# Altium footprint library Connector_Dsub.PcbLib: 120 footprints (part 2 of 8)
Each footprint in its own frame and in the unit in brackets; x right, y up, seen from the top. Pads: shape width x height; smd on the part's side, far side on the other; paste and mask are expansions set on the pad; w line width, h text height; cw(c..) or ccw(c..) is an arc to the next point about the centre after c.
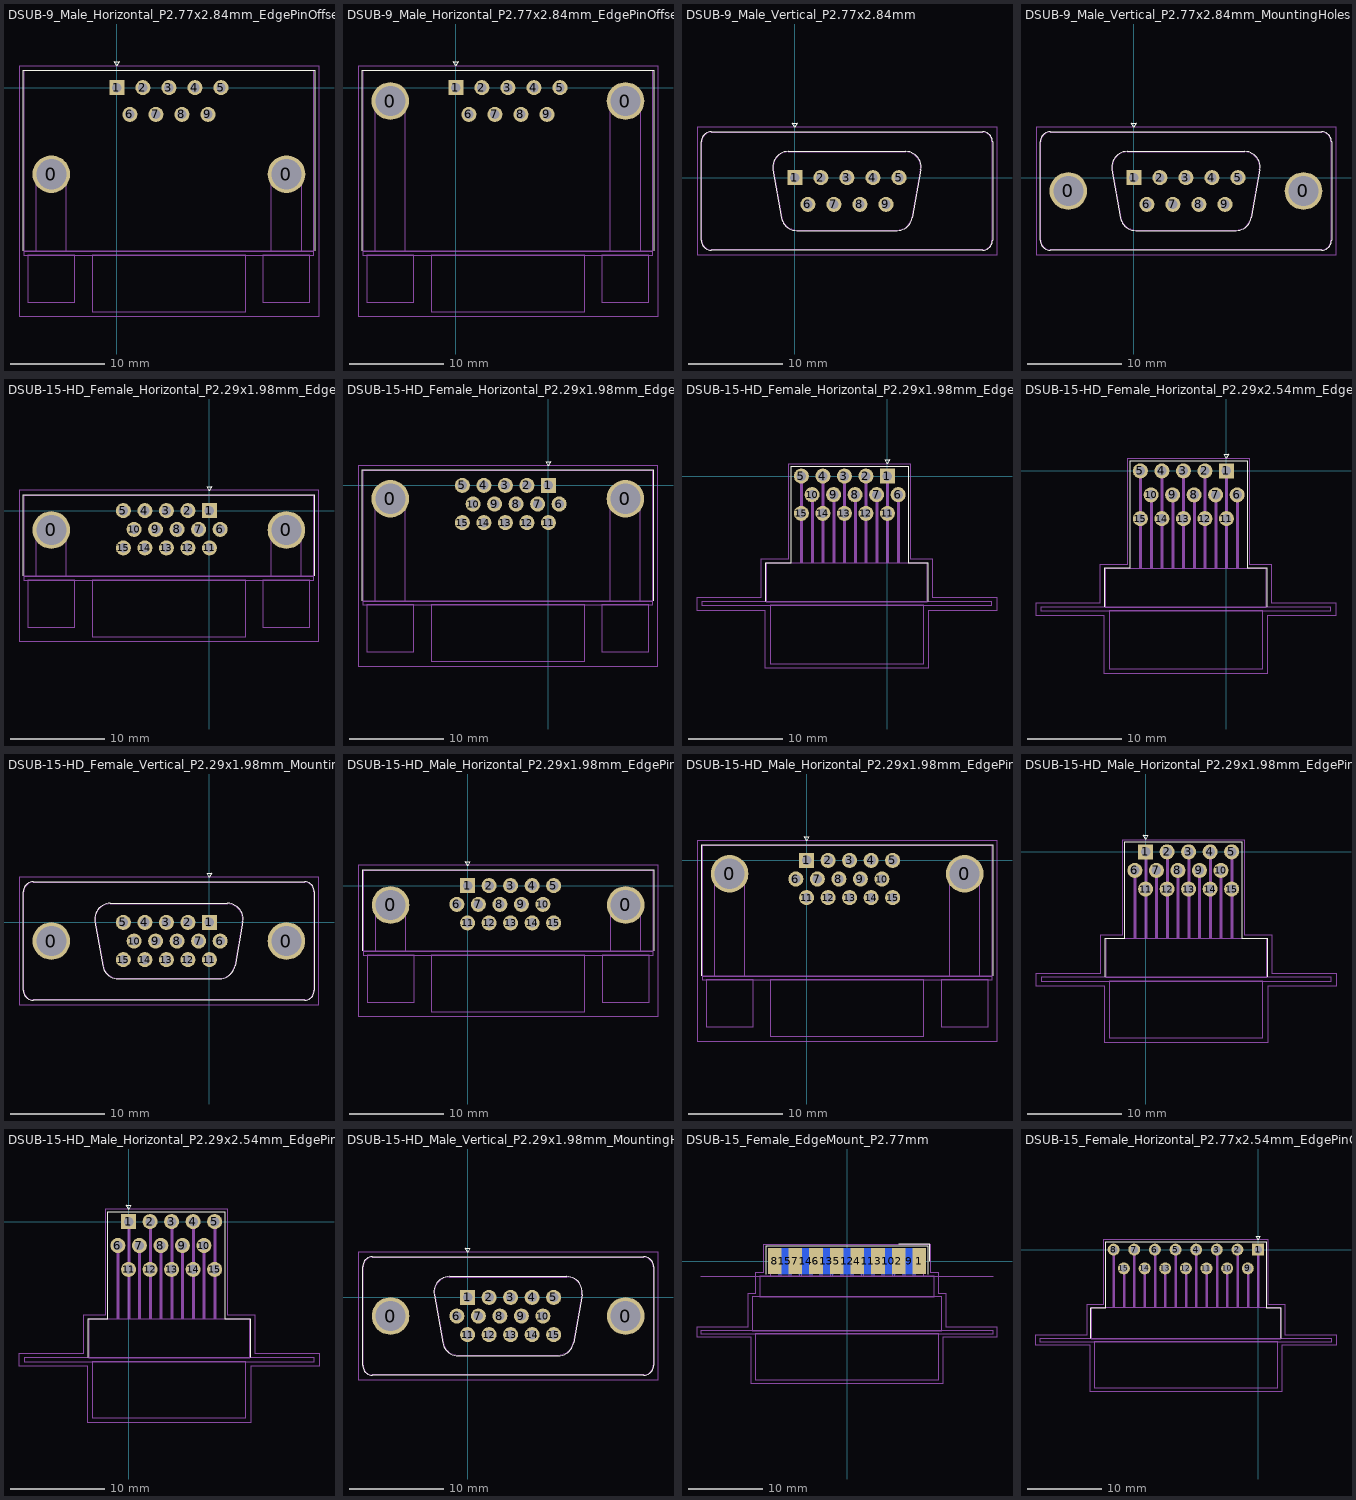
[diagram p1: the footprints below, top view; thin cyan lines are the x and y axes]

## DSUB-9_Male_Horizontal_P2.77x2.84mm_EdgePinOffset14.56mm_Housed_MountingHolesOffset8.20mm [mm]
pads (11):
  round 4 hole 3.2: 0(-6.96,-9.2) 0(18.04,-9.2)
  rect 1.6x1.6 hole 1: 1(0,0)
  round 1.6 hole 1: 2(2.77,0) 3(5.54,0) 4(8.31,0) 5(11.08,0) 6(1.385,-2.84) 7(4.155,-2.84) 8(6.925,-2.84) 9(9.695,-2.84)
F.SilkS:
  lines w0.12: -9.945,-17.34 -9.945,1.86 21.025,1.86 21.025,-17.34 ; -0.25,2.754 0.25,2.754 0,2.321 -0.25,2.754
F.CrtYd:
  lines w0.05: -10.4,-24.3 21.5,-24.3 21.5,2.3 -10.4,2.3 -10.4,-24.3
F.Fab:
  lines w0.1: -8.56,-17.4 -8.56,-9.2 cw(c-6.96,-9.2) -5.36,-9.2 -5.36,-17.4 ; 16.44,-17.4 16.44,-9.2 cw(c18.04,-9.2) 19.64,-9.2 19.64,-17.4 ; -9.885,-17.4 20.965,-17.4 ; -9.885,-17.4 -9.885,-17.8 20.965,-17.8 20.965,-17.4 ; -9.885,-17.4 -9.885,1.8 20.965,1.8 20.965,-17.4 ; -9.885,-17.4 20.965,-17.4 ; -9.46,-22.8 -4.46,-22.8 -4.46,-17.8 -9.46,-17.8 -9.46,-22.8 ; -2.61,-23.8 13.69,-23.8 13.69,-17.8 -2.61,-17.8 -2.61,-23.8 ; 15.54,-22.8 15.54,-17.8 20.54,-17.8 20.54,-22.8 15.54,-22.8
  text "'.Designator'" at 1.493,-21.64 h1

## DSUB-9_Male_Horizontal_P2.77x2.84mm_EdgePinOffset14.56mm_Housed_MountingHolesOffset15.98mm [mm]
pads (11):
  round 4 hole 3.2: 0(-6.96,-1.42) 0(18.04,-1.42)
  rect 1.6x1.6 hole 1: 1(0,0)
  round 1.6 hole 1: 2(2.77,0) 3(5.54,0) 4(8.31,0) 5(11.08,0) 6(1.385,-2.84) 7(4.155,-2.84) 8(6.925,-2.84) 9(9.695,-2.84)
F.SilkS:
  lines w0.12: -9.945,-17.34 -9.945,1.86 21.025,1.86 21.025,-17.34 ; -0.25,2.754 0,2.321 0.25,2.754 -0.25,2.754
F.CrtYd:
  lines w0.05: -10.4,-24.3 21.5,-24.3 21.5,2.3 -10.4,2.3 -10.4,-24.3
F.Fab:
  lines w0.1: -8.56,-17.4 -8.56,-1.42 cw(c-6.96,-1.42) -5.36,-1.42 -5.36,-17.4 ; 16.44,-17.4 16.44,-1.42 cw(c18.04,-1.42) 19.64,-1.42 19.64,-17.4 ; -9.885,-17.4 20.965,-17.4 ; -9.885,-17.4 -9.885,-17.8 20.965,-17.8 20.965,-17.4 ; -9.885,-17.4 20.965,-17.4 ; -9.885,-17.4 -9.885,1.8 20.965,1.8 20.965,-17.4 ; -9.46,-22.8 -4.46,-22.8 -4.46,-17.8 -9.46,-17.8 -9.46,-22.8 ; -2.61,-23.8 13.69,-23.8 13.69,-17.8 -2.61,-17.8 -2.61,-23.8 ; 15.54,-22.8 20.54,-22.8 20.54,-17.8 15.54,-17.8 15.54,-22.8
  text "'.Designator'" at 1.493,-21.64 h1

## DSUB-9_Male_Vertical_P2.77x2.84mm [mm]
pads (9):
  rect 1.6x1.6 hole 1: 1(0,0)
  round 1.6 hole 1: 2(2.77,0) 3(5.54,0) 4(8.31,0) 5(11.08,0) 6(1.385,-2.84) 7(4.155,-2.84) 8(6.925,-2.84) 9(9.695,-2.84)
F.SilkS:
  lines w0.12: -9.945,-6.67 -9.945,3.83 cw(c-8.885,3.83) -8.885,4.89 19.965,4.89 cw(c19.965,3.83) 21.025,3.83 21.025,-6.67 cw(c19.965,-6.67) 19.965,-7.73 -8.885,-7.73 cw(c-8.885,-6.67) -9.945,-6.67 ; -2.326,0.842 -1.427,-4.258 ccw(c0.208,-3.97) 0.208,-5.63 10.872,-5.63 ccw(c10.872,-3.97) 12.507,-4.258 13.406,0.842 ccw(c11.772,1.13) 11.772,2.79 -0.692,2.79 ccw(c-0.692,1.13) -2.326,0.842 ; -0.25,5.784 0.25,5.784 0,5.351 -0.25,5.784
F.CrtYd:
  lines w0.05: -10.4,-8.2 -10.4,5.35 21.5,5.35 21.5,-8.2 -10.4,-8.2
F.Fab:
  lines w0.1: -9.885,-6.67 -9.885,3.83 cw(c-8.885,3.83) -8.885,4.83 19.965,4.83 cw(c19.965,3.83) 20.965,3.83 20.965,-6.67 cw(c19.965,-6.67) 19.965,-7.67 -8.885,-7.67 cw(c-8.885,-6.67) -9.885,-6.67 ; -2.279,0.852 -1.38,-4.248 ccw(c0.196,-3.97) 0.196,-5.57 10.884,-5.57 ccw(c10.884,-3.97) 12.46,-4.248 13.359,0.852 ccw(c11.783,1.13) 11.783,2.73 -0.703,2.73 ccw(c-0.703,1.13) -2.279,0.852
  text "'.Designator'" at 1.493,-2.26 h1

## DSUB-9_Male_Vertical_P2.77x2.84mm_MountingHoles [mm]
pads (11):
  round 4 hole 3.2: 0(-6.96,-1.42) 0(18.04,-1.42)
  rect 1.6x1.6 hole 1: 1(0,0)
  round 1.6 hole 1: 2(2.77,0) 3(5.54,0) 4(8.31,0) 5(11.08,0) 6(1.385,-2.84) 7(4.155,-2.84) 8(6.925,-2.84) 9(9.695,-2.84)
F.SilkS:
  lines w0.12: -9.945,-6.67 -9.945,3.83 cw(c-8.885,3.83) -8.885,4.89 19.965,4.89 cw(c19.965,3.83) 21.025,3.83 21.025,-6.67 cw(c19.965,-6.67) 19.965,-7.73 -8.885,-7.73 cw(c-8.885,-6.67) -9.945,-6.67 ; -2.326,0.842 -1.427,-4.258 ccw(c0.208,-3.97) 0.208,-5.63 10.872,-5.63 ccw(c10.872,-3.97) 12.507,-4.258 13.406,0.842 ccw(c11.772,1.13) 11.772,2.79 -0.692,2.79 ccw(c-0.692,1.13) -2.326,0.842 ; -0.25,5.784 0.25,5.784 0,5.351 -0.25,5.784
F.CrtYd:
  lines w0.05: -10.4,-8.2 21.5,-8.2 21.5,5.35 -10.4,5.35 -10.4,-8.2
F.Fab:
  lines w0.1: -9.885,-6.67 -9.885,3.83 cw(c-8.885,3.83) -8.885,4.83 19.965,4.83 cw(c19.965,3.83) 20.965,3.83 20.965,-6.67 cw(c19.965,-6.67) 19.965,-7.67 -8.885,-7.67 cw(c-8.885,-6.67) -9.885,-6.67 ; -2.279,0.852 -1.38,-4.248 ccw(c0.196,-3.97) 0.196,-5.57 10.884,-5.57 ccw(c10.884,-3.97) 12.46,-4.248 13.359,0.852 ccw(c11.783,1.13) 11.783,2.73 -0.703,2.73 ccw(c-0.703,1.13) -2.279,0.852
  text "'.Designator'" at 1.493,-2.26 h1

## DSUB-15-HD_Female_Horizontal_P2.29x1.98mm_EdgePinOffset3.03mm_Housed_MountingHolesOffset4.94mm [mm]
pads (17):
  round 4 hole 3.2: 0(-16.815,-2.05) 0(8.185,-2.05)
  rect 1.6x1.6 hole 1: 1(0,0)
  round 1.6 hole 1: 2(-2.29,0) 3(-4.58,0) 4(-6.87,0) 5(-9.16,0) 6(1.145,-1.98) 7(-1.145,-1.98) 8(-3.435,-1.98) 9(-5.725,-1.98) 10(-8.015,-1.98) 11(0,-3.96) 12(-2.29,-3.96) 13(-4.58,-3.96) 14(-6.87,-3.96) 15(-9.16,-3.96)
F.SilkS:
  lines w0.12: -19.8,-6.93 -19.8,1.67 11.17,1.67 11.17,-6.93 ; -0.25,2.564 0.25,2.564 0,2.131 -0.25,2.564
F.CrtYd:
  lines w0.05: -20.25,-13.9 -20.25,2.15 11.65,2.15 11.65,-13.9 -20.25,-13.9
F.Fab:
  lines w0.1: -18.415,-6.99 -18.415,-2.05 cw(c-16.815,-2.05) -15.215,-2.05 -15.215,-6.99 ; 6.585,-6.99 6.585,-2.05 cw(c8.185,-2.05) 9.785,-2.05 9.785,-6.99 ; -19.74,-6.99 -19.74,1.61 11.11,1.61 11.11,-6.99 ; -19.74,-6.99 11.11,-6.99 ; -19.74,-6.99 11.11,-6.99 ; -19.74,-6.99 -19.74,-7.39 11.11,-7.39 11.11,-6.99 ; -19.315,-12.39 -14.315,-12.39 -14.315,-7.39 -19.315,-7.39 -19.315,-12.39 ; -12.465,-13.39 -12.465,-7.39 3.835,-7.39 3.835,-13.39 -12.465,-13.39 ; 5.685,-12.39 10.685,-12.39 10.685,-7.39 5.685,-7.39 5.685,-12.39
  text "'.Designator'" at -8.362,-11.23 h1

## DSUB-15-HD_Female_Horizontal_P2.29x1.98mm_EdgePinOffset8.35mm_Housed_MountingHolesOffset10.89mm [mm]
pads (17):
  round 4 hole 3.2: 0(-16.815,-1.42) 0(8.185,-1.42)
  rect 1.6x1.6 hole 1: 1(0,0)
  round 1.6 hole 1: 2(-2.29,0) 3(-4.58,0) 4(-6.87,0) 5(-9.16,0) 6(1.145,-1.98) 7(-1.145,-1.98) 8(-3.435,-1.98) 9(-5.725,-1.98) 10(-8.015,-1.98) 11(0,-3.96) 12(-2.29,-3.96) 13(-4.58,-3.96) 14(-6.87,-3.96) 15(-9.16,-3.96)
F.SilkS:
  lines w0.12: -19.8,-12.25 -19.8,1.64 11.17,1.64 11.17,-12.25 ; -0.25,2.534 0,2.101 0.25,2.534 -0.25,2.534
F.CrtYd:
  lines w0.05: -20.25,-19.25 -20.25,2.1 11.65,2.1 11.65,-19.25 -20.25,-19.25
F.Fab:
  lines w0.1: -18.415,-12.31 -18.415,-1.42 cw(c-16.815,-1.42) -15.215,-1.42 -15.215,-12.31 ; 6.585,-12.31 6.585,-1.42 cw(c8.185,-1.42) 9.785,-1.42 9.785,-12.31 ; -19.74,-12.31 -19.74,-12.71 11.11,-12.71 11.11,-12.31 ; -19.74,-12.31 -19.74,1.58 11.11,1.58 11.11,-12.31 ; -19.74,-12.31 11.11,-12.31 ; -19.74,-12.31 11.11,-12.31 ; -19.315,-17.71 -14.315,-17.71 -14.315,-12.71 -19.315,-12.71 -19.315,-17.71 ; -12.465,-18.71 -12.465,-12.71 3.835,-12.71 3.835,-18.71 -12.465,-18.71 ; 5.685,-17.71 10.685,-17.71 10.685,-12.71 5.685,-12.71 5.685,-17.71
  text "'.Designator'" at -8.362,-16.55 h1

## DSUB-15-HD_Female_Horizontal_P2.29x1.98mm_EdgePinOffset9.40mm [mm]
pads (15):
  rect 1.6x1.6 hole 1: 1(0,0)
  round 1.6 hole 1: 2(-2.29,0) 3(-4.58,0) 4(-6.87,0) 5(-9.16,0) 6(1.145,-1.98) 7(-1.145,-1.98) 8(-3.435,-1.98) 9(-5.725,-1.98) 10(-8.015,-1.98) 11(0,-3.96) 12(-2.29,-3.96) 13(-4.58,-3.96) 14(-6.87,-3.96) 15(-9.16,-3.96)
F.SilkS:
  lines w0.12: -12.925,-13.3 -12.925,-9.2 -10.22,-9.2 -10.22,1.06 2.205,1.06 2.205,-9.2 4.295,-9.2 4.295,-13.3 ; -0.25,1.754 0.25,1.754 0,1.321 -0.25,1.754
F.CrtYd:
  lines w0.05: -20.25,-14.3 -20.25,-12.9 -13.4,-12.9 -13.4,-8.8 -10.5,-8.8 -10.5,1.3 2.45,1.3 2.45,-8.8 4.75,-8.8 4.75,-12.9 11.65,-12.9 11.65,-14.3 4.35,-14.3 4.35,-20.45 -13,-20.45 -13,-14.3 -20.25,-14.3
F.Fab:
  lines w0.1: -9.26,-3.96 -9.26,-9.26 -9.26,0 ; -9.16,-3.96 -9.16,-9.26 -9.16,0 ; -9.06,-3.96 -9.06,-9.26 -9.06,0 ; -8.115,-9.26 -8.115,-1.98 ; -8.015,-9.26 -8.015,-1.98 ; -7.915,-9.26 -7.915,-1.98 ; -6.97,-3.96 -6.97,-9.26 -6.97,0 ; -6.87,-3.96 -6.87,-9.26 -6.87,0 ; -6.77,-3.96 -6.77,-9.26 -6.77,0 ; -5.825,-9.26 -5.825,-1.98 ; -5.725,-9.26 -5.725,-1.98 ; -5.625,-9.26 -5.625,-1.98 ; -4.68,-3.96 -4.68,-9.26 -4.68,0 ; -4.58,-3.96 -4.58,-9.26 -4.58,0 ; -4.48,-3.96 -4.48,-9.26 -4.48,0 ; -3.535,-9.26 -3.535,-1.98 ; -3.435,-9.26 -3.435,-1.98 ; -3.335,-9.26 -3.335,-1.98 ; -2.39,-3.96 -2.39,-9.26 -2.39,0 ; -2.29,-3.96 -2.29,-9.26 -2.29,0 ; -2.19,-3.96 -2.19,-9.26 -2.19,0 ; -1.245,-9.26 -1.245,-1.98 ; -1.145,-9.26 -1.145,-1.98 ; -1.045,-9.26 -1.045,-1.98 ; -0.1,-3.96 -0.1,-9.26 -0.1,0 ; 0,-3.96 0,-9.26 0,0 ; 0.1,-3.96 0.1,-9.26 0.1,0 ; 1.045,-9.26 1.045,-1.98 ; 1.145,-9.26 1.145,-1.98 ; 1.245,-9.26 1.245,-1.98 ; -19.74,-13.76 -19.74,-13.36 11.11,-13.36 11.11,-13.76 -19.74,-13.76 ; -12.865,-13.36 4.235,-13.36 4.235,-9.26 -12.865,-9.26 -12.865,-13.36 ; -12.465,-19.93 -12.465,-13.76 3.835,-13.76 3.835,-19.93 -12.465,-19.93
  text "'.Designator'" at -8.362,-17.685 h1

## DSUB-15-HD_Female_Horizontal_P2.29x2.54mm_EdgePinOffset9.40mm [mm]
pads (15):
  rect 1.6x1.6 hole 1: 1(0,0)
  round 1.6 hole 1: 2(-2.29,0) 3(-4.58,0) 4(-6.87,0) 5(-9.16,0) 6(1.145,-2.54) 7(-1.145,-2.54) 8(-3.435,-2.54) 9(-5.725,-2.54) 10(-8.015,-2.54) 11(0,-5.08) 12(-2.29,-5.08) 13(-4.58,-5.08) 14(-6.87,-5.08) 15(-9.16,-5.08)
F.SilkS:
  lines w0.12: -12.925,-14.42 -12.925,-10.32 -10.22,-10.32 -10.22,1.06 2.205,1.06 2.205,-10.32 4.295,-10.32 4.295,-14.42 ; -0.25,1.754 0.25,1.754 0,1.321 -0.25,1.754
F.CrtYd:
  lines w0.05: -20.25,-15.4 -13,-15.4 -13,-21.55 4.35,-21.55 4.35,-15.4 11.65,-15.4 11.65,-14 4.75,-14 4.75,-9.9 2.45,-9.9 2.45,1.35 -10.5,1.35 -10.5,-9.9 -13.4,-9.9 -13.4,-14 -20.25,-14 -20.25,-15.4
F.Fab:
  lines w0.1: -9.26,-5.08 -9.26,-10.38 -9.26,0 ; -9.16,-5.08 -9.16,-10.38 -9.16,0 ; -9.06,-5.08 -9.06,-10.38 -9.06,0 ; -8.115,-10.38 -8.115,-2.54 ; -8.015,-10.38 -8.015,-2.54 ; -7.915,-10.38 -7.915,-2.54 ; -6.97,-5.08 -6.97,-10.38 -6.97,0 ; -6.87,-5.08 -6.87,-10.38 -6.87,0 ; -6.77,-5.08 -6.77,-10.38 -6.77,0 ; -5.825,-10.38 -5.825,-2.54 ; -5.725,-10.38 -5.725,-2.54 ; -5.625,-10.38 -5.625,-2.54 ; -4.68,-5.08 -4.68,-10.38 -4.68,0 ; -4.58,-5.08 -4.58,-10.38 -4.58,0 ; -4.48,-5.08 -4.48,-10.38 -4.48,0 ; -3.535,-10.38 -3.535,-2.54 ; -3.435,-10.38 -3.435,-2.54 ; -3.335,-10.38 -3.335,-2.54 ; -2.39,-5.08 -2.39,-10.38 -2.39,0 ; -2.29,-5.08 -2.29,-10.38 -2.29,0 ; -2.19,-5.08 -2.19,-10.38 -2.19,0 ; -1.245,-10.38 -1.245,-2.54 ; -1.145,-10.38 -1.145,-2.54 ; -1.045,-10.38 -1.045,-2.54 ; -0.1,-5.08 -0.1,-10.38 -0.1,0 ; 0,-5.08 0,-10.38 0,0 ; 0.1,-5.08 0.1,-10.38 0.1,0 ; 1.045,-10.38 1.045,-2.54 ; 1.145,-10.38 1.145,-2.54 ; 1.245,-10.38 1.245,-2.54 ; -19.74,-14.88 -19.74,-14.48 11.11,-14.48 11.11,-14.88 -19.74,-14.88 ; -12.865,-14.48 -12.865,-10.38 4.235,-10.38 4.235,-14.48 -12.865,-14.48 ; -12.465,-21.05 -12.465,-14.88 3.835,-14.88 3.835,-21.05 -12.465,-21.05
  text "'.Designator'" at -8.362,-18.805 h1

## DSUB-15-HD_Female_Vertical_P2.29x1.98mm_MountingHoles [mm]
pads (17):
  round 4 hole 3.2: 0(-16.815,-1.98) 0(8.185,-1.98)
  rect 1.6x1.6 hole 1: 1(0,0)
  round 1.6 hole 1: 2(-2.29,0) 3(-4.58,0) 4(-6.87,0) 5(-9.16,0) 6(1.145,-1.98) 7(-1.145,-1.98) 8(-3.435,-1.98) 9(-5.725,-1.98) 10(-8.015,-1.98) 11(0,-3.96) 12(-2.29,-3.96) 13(-4.58,-3.96) 14(-6.87,-3.96) 15(-9.16,-3.96)
F.SilkS:
  lines w0.12: -19.8,-7.23 -19.8,3.27 cw(c-18.74,3.27) -18.74,4.33 10.11,4.33 cw(c10.11,3.27) 11.17,3.27 11.17,-7.23 cw(c10.11,-7.23) 10.11,-8.29 -18.74,-8.29 cw(c-18.74,-7.23) -19.8,-7.23 ; -12.181,0.082 -11.353,-4.618 ccw(c-9.718,-4.33) -9.718,-5.99 1.088,-5.99 ccw(c1.088,-4.33) 2.723,-4.618 3.551,0.082 ccw(c1.917,0.37) 1.917,2.03 -10.547,2.03 ccw(c-10.547,0.37) -12.181,0.082 ; -0.25,5.224 0.25,5.224 0,4.791 -0.25,5.224
F.CrtYd:
  lines w0.05: -20.25,-8.75 11.65,-8.75 11.65,4.8 -20.25,4.8 -20.25,-8.75
F.Fab:
  lines w0.1: -19.74,-7.23 -19.74,3.27 cw(c-18.74,3.27) -18.74,4.27 10.11,4.27 cw(c10.11,3.27) 11.11,3.27 11.11,-7.23 cw(c10.11,-7.23) 10.11,-8.23 -18.74,-8.23 cw(c-18.74,-7.23) -19.74,-7.23 ; -12.134,0.092 -11.305,-4.608 ccw(c-9.729,-4.33) -9.729,-5.93 1.099,-5.93 ccw(c1.099,-4.33) 2.675,-4.608 3.504,0.092 ccw(c1.928,0.37) 1.928,1.97 -10.558,1.97 ccw(c-10.558,0.37) -12.134,0.092
  text "'.Designator'" at -8.362,-2.82 h1

## DSUB-15-HD_Male_Horizontal_P2.29x1.98mm_EdgePinOffset3.03mm_Housed_MountingHolesOffset4.94mm [mm]
pads (17):
  round 4 hole 3.2: 0(-8.185,-2.05) 0(16.815,-2.05)
  rect 1.6x1.6 hole 1: 1(0,0)
  round 1.6 hole 1: 2(2.29,0) 3(4.58,0) 4(6.87,0) 5(9.16,0) 6(-1.145,-1.98) 7(1.145,-1.98) 8(3.435,-1.98) 9(5.725,-1.98) 10(8.015,-1.98) 11(0,-3.96) 12(2.29,-3.96) 13(4.58,-3.96) 14(6.87,-3.96) 15(9.16,-3.96)
F.SilkS:
  lines w0.12: -11.17,-6.93 -11.17,1.67 19.8,1.67 19.8,-6.93 ; -0.25,2.564 0,2.131 0.25,2.564 -0.25,2.564
F.CrtYd:
  lines w0.05: -11.65,-13.9 -11.65,2.15 20.25,2.15 20.25,-13.9 -11.65,-13.9
F.Fab:
  lines w0.1: -9.785,-6.99 -9.785,-2.05 cw(c-8.185,-2.05) -6.585,-2.05 -6.585,-6.99 ; 15.215,-6.99 15.215,-2.05 cw(c16.815,-2.05) 18.415,-2.05 18.415,-6.99 ; -11.11,-6.99 -11.11,-7.39 19.74,-7.39 19.74,-6.99 ; -11.11,-6.99 19.74,-6.99 ; -11.11,-6.99 -11.11,1.61 19.74,1.61 19.74,-6.99 ; -11.11,-6.99 19.74,-6.99 ; -10.685,-12.39 -5.685,-12.39 -5.685,-7.39 -10.685,-7.39 -10.685,-12.39 ; -3.835,-13.39 12.465,-13.39 12.465,-7.39 -3.835,-7.39 -3.835,-13.39 ; 14.315,-12.39 19.315,-12.39 19.315,-7.39 14.315,-7.39 14.315,-12.39
  text "'.Designator'" at 0.268,-11.23 h1

## DSUB-15-HD_Male_Horizontal_P2.29x1.98mm_EdgePinOffset8.35mm_Housed_MountingHolesOffset10.89mm [mm]
pads (17):
  round 4 hole 3.2: 0(-8.185,-1.42) 0(16.815,-1.42)
  rect 1.6x1.6 hole 1: 1(0,0)
  round 1.6 hole 1: 2(2.29,0) 3(4.58,0) 4(6.87,0) 5(9.16,0) 6(-1.145,-1.98) 7(1.145,-1.98) 8(3.435,-1.98) 9(5.725,-1.98) 10(8.015,-1.98) 11(0,-3.96) 12(2.29,-3.96) 13(4.58,-3.96) 14(6.87,-3.96) 15(9.16,-3.96)
F.SilkS:
  lines w0.12: -11.17,-12.25 -11.17,1.64 19.8,1.64 19.8,-12.25 ; -0.25,2.534 0,2.101 0.25,2.534 -0.25,2.534
F.CrtYd:
  lines w0.05: -11.65,-19.25 -11.65,2.1 20.25,2.1 20.25,-19.25 -11.65,-19.25
F.Fab:
  lines w0.1: -9.785,-12.31 -9.785,-1.42 cw(c-8.185,-1.42) -6.585,-1.42 -6.585,-12.31 ; 15.215,-12.31 15.215,-1.42 cw(c16.815,-1.42) 18.415,-1.42 18.415,-12.31 ; -11.11,-12.31 -11.11,1.58 19.74,1.58 19.74,-12.31 ; -11.11,-12.31 19.74,-12.31 ; -11.11,-12.31 -11.11,-12.71 19.74,-12.71 19.74,-12.31 ; -11.11,-12.31 19.74,-12.31 ; -10.685,-17.71 -10.685,-12.71 -5.685,-12.71 -5.685,-17.71 -10.685,-17.71 ; -3.835,-18.71 -3.835,-12.71 12.465,-12.71 12.465,-18.71 -3.835,-18.71 ; 14.315,-17.71 14.315,-12.71 19.315,-12.71 19.315,-17.71 14.315,-17.71
  text "'.Designator'" at 0.268,-16.55 h1

## DSUB-15-HD_Male_Horizontal_P2.29x1.98mm_EdgePinOffset9.40mm [mm]
pads (15):
  rect 1.6x1.6 hole 1: 1(0,0)
  round 1.6 hole 1: 2(2.29,0) 3(4.58,0) 4(6.87,0) 5(9.16,0) 6(-1.145,-1.98) 7(1.145,-1.98) 8(3.435,-1.98) 9(5.725,-1.98) 10(8.015,-1.98) 11(0,-3.96) 12(2.29,-3.96) 13(4.58,-3.96) 14(6.87,-3.96) 15(9.16,-3.96)
F.SilkS:
  lines w0.12: -4.295,-13.3 -4.295,-9.2 -2.205,-9.2 -2.205,1.06 10.22,1.06 10.22,-9.2 12.925,-9.2 12.925,-13.3 ; -0.25,1.754 0,1.321 0.25,1.754 -0.25,1.754
F.CrtYd:
  lines w0.05: -11.65,-14.3 -4.35,-14.3 -4.35,-20.3 13,-20.3 13,-14.3 20.25,-14.3 20.25,-12.9 13.4,-12.9 13.4,-8.8 10.5,-8.8 10.5,1.3 -2.45,1.3 -2.45,-8.8 -4.75,-8.8 -4.75,-12.9 -11.65,-12.9 -11.65,-14.3
F.Fab:
  lines w0.1: -1.245,-9.26 -1.245,-1.98 ; -1.145,-9.26 -1.145,-1.98 ; -1.045,-9.26 -1.045,-1.98 ; -0.1,-3.96 -0.1,-9.26 -0.1,0 ; 0,-3.96 0,-9.26 0,0 ; 0.1,-3.96 0.1,-9.26 0.1,0 ; 1.045,-9.26 1.045,-1.98 ; 1.145,-9.26 1.145,-1.98 ; 1.245,-9.26 1.245,-1.98 ; 2.19,-3.96 2.19,-9.26 2.19,0 ; 2.29,-3.96 2.29,-9.26 2.29,0 ; 2.39,-3.96 2.39,-9.26 2.39,0 ; 3.335,-9.26 3.335,-1.98 ; 3.435,-9.26 3.435,-1.98 ; 3.535,-9.26 3.535,-1.98 ; 4.48,-3.96 4.48,-9.26 4.48,0 ; 4.58,-3.96 4.58,-9.26 4.58,0 ; 4.68,-3.96 4.68,-9.26 4.68,0 ; 5.625,-9.26 5.625,-1.98 ; 5.725,-9.26 5.725,-1.98 ; 5.825,-9.26 5.825,-1.98 ; 6.77,-3.96 6.77,-9.26 6.77,0 ; 6.87,-3.96 6.87,-9.26 6.87,0 ; 6.97,-3.96 6.97,-9.26 6.97,0 ; 7.915,-9.26 7.915,-1.98 ; 8.015,-9.26 8.015,-1.98 ; 8.115,-9.26 8.115,-1.98 ; 9.06,-3.96 9.06,-9.26 9.06,0 ; 9.16,-3.96 9.16,-9.26 9.16,0 ; 9.26,-3.96 9.26,-9.26 9.26,0 ; -11.11,-13.76 -11.11,-13.36 19.74,-13.36 19.74,-13.76 -11.11,-13.76 ; -4.235,-13.36 -4.235,-9.26 12.865,-9.26 12.865,-13.36 -4.235,-13.36 ; -3.835,-19.76 12.465,-19.76 12.465,-13.76 -3.835,-13.76 -3.835,-19.76
  text "'.Designator'" at 0.268,-17.6 h1

## DSUB-15-HD_Male_Horizontal_P2.29x2.54mm_EdgePinOffset9.40mm [mm]
pads (15):
  rect 1.6x1.6 hole 1: 1(0,0)
  round 1.6 hole 1: 2(2.29,0) 3(4.58,0) 4(6.87,0) 5(9.16,0) 6(-1.145,-2.54) 7(1.145,-2.54) 8(3.435,-2.54) 9(5.725,-2.54) 10(8.015,-2.54) 11(0,-5.08) 12(2.29,-5.08) 13(4.58,-5.08) 14(6.87,-5.08) 15(9.16,-5.08)
F.SilkS:
  lines w0.12: -4.295,-14.42 -4.295,-10.32 -2.205,-10.32 -2.205,1.06 10.22,1.06 10.22,-10.32 12.925,-10.32 12.925,-14.42 ; -0.25,1.754 0.25,1.754 0,1.321 -0.25,1.754
F.CrtYd:
  lines w0.05: -11.65,-15.4 -4.35,-15.4 -4.35,-21.4 13,-21.4 13,-15.4 20.25,-15.4 20.25,-14 13.4,-14 13.4,-9.9 10.5,-9.9 10.5,1.35 -2.45,1.35 -2.45,-9.9 -4.75,-9.9 -4.75,-14 -11.65,-14 -11.65,-15.4
F.Fab:
  lines w0.1: -1.245,-10.38 -1.245,-2.54 ; -1.145,-10.38 -1.145,-2.54 ; -1.045,-10.38 -1.045,-2.54 ; -0.1,-5.08 -0.1,-10.38 -0.1,0 ; 0,-5.08 0,-10.38 0,0 ; 0.1,-5.08 0.1,-10.38 0.1,0 ; 1.045,-10.38 1.045,-2.54 ; 1.145,-10.38 1.145,-2.54 ; 1.245,-10.38 1.245,-2.54 ; 2.19,-5.08 2.19,-10.38 2.19,0 ; 2.29,-5.08 2.29,-10.38 2.29,0 ; 2.39,-5.08 2.39,-10.38 2.39,0 ; 3.335,-10.38 3.335,-2.54 ; 3.435,-10.38 3.435,-2.54 ; 3.535,-10.38 3.535,-2.54 ; 4.48,-5.08 4.48,-10.38 4.48,0 ; 4.58,-5.08 4.58,-10.38 4.58,0 ; 4.68,-5.08 4.68,-10.38 4.68,0 ; 5.625,-10.38 5.625,-2.54 ; 5.725,-10.38 5.725,-2.54 ; 5.825,-10.38 5.825,-2.54 ; 6.77,-5.08 6.77,-10.38 6.77,0 ; 6.87,-5.08 6.87,-10.38 6.87,0 ; 6.97,-5.08 6.97,-10.38 6.97,0 ; 7.915,-10.38 7.915,-2.54 ; 8.015,-10.38 8.015,-2.54 ; 8.115,-10.38 8.115,-2.54 ; 9.06,-5.08 9.06,-10.38 9.06,0 ; 9.16,-5.08 9.16,-10.38 9.16,0 ; 9.26,-5.08 9.26,-10.38 9.26,0 ; -11.11,-14.88 19.74,-14.88 19.74,-14.48 -11.11,-14.48 -11.11,-14.88 ; -4.235,-14.48 12.865,-14.48 12.865,-10.38 -4.235,-10.38 -4.235,-14.48 ; -3.835,-20.88 -3.835,-14.88 12.465,-14.88 12.465,-20.88 -3.835,-20.88
  text "'.Designator'" at 0.268,-18.72 h1

## DSUB-15-HD_Male_Vertical_P2.29x1.98mm_MountingHoles [mm]
pads (17):
  round 4 hole 3.2: 0(-8.185,-1.98) 0(16.815,-1.98)
  rect 1.6x1.6 hole 1: 1(0,0)
  round 1.6 hole 1: 2(2.29,0) 3(4.58,0) 4(6.87,0) 5(9.16,0) 6(-1.145,-1.98) 7(1.145,-1.98) 8(3.435,-1.98) 9(5.725,-1.98) 10(8.015,-1.98) 11(0,-3.96) 12(2.29,-3.96) 13(4.58,-3.96) 14(6.87,-3.96) 15(9.16,-3.96)
F.SilkS:
  lines w0.12: -11.17,-7.23 -11.17,3.27 cw(c-10.11,3.27) -10.11,4.33 18.74,4.33 cw(c18.74,3.27) 19.8,3.27 19.8,-7.23 cw(c18.74,-7.23) 18.74,-8.29 -10.11,-8.29 cw(c-10.11,-7.23) -11.17,-7.23 ; -3.551,0.282 -2.652,-4.818 ccw(c-1.017,-4.53) -1.017,-6.19 9.647,-6.19 ccw(c9.647,-4.53) 11.282,-4.818 12.181,0.282 ccw(c10.547,0.57) 10.547,2.23 -1.917,2.23 ccw(c-1.917,0.57) -3.551,0.282 ; -0.25,5.224 0,4.791 0.25,5.224 -0.25,5.224
F.CrtYd:
  lines w0.05: -11.65,-8.75 -11.65,4.8 20.25,4.8 20.25,-8.75 -11.65,-8.75
F.Fab:
  lines w0.1: -11.11,-7.23 -11.11,3.27 cw(c-10.11,3.27) -10.11,4.27 18.74,4.27 cw(c18.74,3.27) 19.74,3.27 19.74,-7.23 cw(c18.74,-7.23) 18.74,-8.23 -10.11,-8.23 cw(c-10.11,-7.23) -11.11,-7.23 ; -3.504,0.292 -2.605,-4.808 ccw(c-1.029,-4.53) -1.029,-6.13 9.659,-6.13 ccw(c9.659,-4.53) 11.235,-4.808 12.134,0.292 ccw(c10.558,0.57) 10.558,2.17 -1.928,2.17 ccw(c-1.928,0.57) -3.504,0.292
  text "'.Designator'" at 0.268,-2.82 h1

## DSUB-15_Female_EdgeMount_P2.77mm [mm]
pads (15):
  rect 1.847x3.48 smd: 1(9.695,0) 2(6.925,0) 3(4.155,0) 4(1.385,0) 5(-1.385,0) 6(-4.155,0) 7(-6.925,0) 8(-9.695,0)
  rect 1.847x3.48 smd far side: 9(8.31,0) 10(5.54,0) 11(2.77,0) 12(0,0) 13(-2.77,0) 14(-5.54,0) 15(-8.31,0)
F.SilkS:
  lines w0.12: -10.878,-1.74 -10.878,2 10.878,2 10.878,-1.74 ; 6.925,2.24 11.118,2.24 11.118,0
Dwgs.User:
  lines w0.05: -19.6,-1.99 19.6,-1.99
  text "PCB edge" at -16.323,-1.732 h0.5
F.CrtYd:
  lines w0.05: -20.1,-10.2 -12.8,-10.2 -12.8,-16.4 12.8,-16.4 12.8,-10.2 20.1,-10.2 20.1,-8.8 13.2,-8.8 13.2,-4.3 12.2,-4.3 12.2,-1.5 11.15,-1.5 11.15,2.25 -11.15,2.25 -11.15,-1.5 -12.2,-1.5 -12.2,-4.3 -13.2,-4.3 -13.2,-8.8 -20.1,-8.8 -20.1,-10.2
B.Fab:
  lines w0.1: -8.91,-1.99 -7.71,-1.99 -7.71,0.91 -8.91,0.91 -8.91,-1.99 ; -6.14,-1.99 -6.14,0.91 -4.94,0.91 -4.94,-1.99 -6.14,-1.99 ; -3.37,-1.99 -2.17,-1.99 -2.17,0.91 -3.37,0.91 -3.37,-1.99 ; -0.6,-1.99 0.6,-1.99 0.6,0.91 -0.6,0.91 -0.6,-1.99 ; 2.17,-1.99 3.37,-1.99 3.37,0.91 2.17,0.91 2.17,-1.99 ; 4.94,-1.99 6.14,-1.99 6.14,0.91 4.94,0.91 4.94,-1.99 ; 7.71,-1.99 7.71,0.91 8.91,0.91 8.91,-1.99 7.71,-1.99
F.Fab:
  lines w0.1: -19.6,-9.69 19.6,-9.69 19.6,-9.29 -19.6,-9.29 -19.6,-9.69 ; -12.7,-9.29 12.7,-9.29 12.7,-4.79 -12.7,-4.79 -12.7,-9.29 ; -12.3,-15.86 -12.3,-9.69 12.3,-9.69 12.3,-15.86 -12.3,-15.86 ; -11.7,-4.79 11.7,-4.79 11.7,-1.99 -11.7,-1.99 -11.7,-4.79 ; -10.295,-1.99 -10.295,0.91 -9.095,0.91 -9.095,-1.99 -10.295,-1.99 ; -7.525,-1.99 -6.325,-1.99 -6.325,0.91 -7.525,0.91 -7.525,-1.99 ; -4.755,-1.99 -3.555,-1.99 -3.555,0.91 -4.755,0.91 -4.755,-1.99 ; -1.985,-1.99 -0.785,-1.99 -0.785,0.91 -1.985,0.91 -1.985,-1.99 ; 0.785,-1.99 1.985,-1.99 1.985,0.91 0.785,0.91 0.785,-1.99 ; 3.555,-1.99 4.755,-1.99 4.755,0.91 3.555,0.91 3.555,-1.99 ; 6.325,-1.99 6.325,0.91 7.525,0.91 7.525,-1.99 6.325,-1.99 ; 9.095,-1.99 10.295,-1.99 10.295,0.91 9.095,0.91 9.095,-1.99
  text "'.Designator'" at -4.047,-4.23 h1

## DSUB-15_Female_Horizontal_P2.77x2.54mm_EdgePinOffset9.40mm [mm]
pads (15):
  rect 1.6x1.6 hole 1: 1(0,0)
  round 1.6 hole 1: 2(-2.77,0) 3(-5.54,0) 4(-8.31,0) 5(-11.08,0) 6(-13.85,0) 7(-16.62,0) 8(-19.39,0) 9(-1.385,-2.54) 10(-4.155,-2.54) 11(-6.925,-2.54) 12(-9.695,-2.54) 13(-12.465,-2.54) 14(-15.235,-2.54) 15(-18.005,-2.54)
F.SilkS:
  lines w0.12: -22.455,-11.88 -22.455,-7.78 -20.45,-7.78 -20.45,1.06 1.06,1.06 1.06,-7.78 3.065,-7.78 3.065,-11.88 ; -0.25,1.754 0.25,1.754 0,1.321 -0.25,1.754
F.CrtYd:
  lines w0.05: -29.8,-12.85 -22.5,-12.85 -22.5,-19.05 3.15,-19.05 3.15,-12.85 10.45,-12.85 10.45,-11.45 3.55,-11.45 3.55,-7.35 1.3,-7.35 1.3,1.35 -20.7,1.35 -20.7,-7.35 -22.9,-7.35 -22.9,-11.45 -29.8,-11.45 -29.8,-12.85
F.Fab:
  lines w0.1: -19.49,-7.84 -19.49,0 ; -19.39,-7.84 -19.39,0 ; -19.29,-7.84 -19.29,0 ; -18.105,-7.84 -18.105,-2.54 ; -18.005,-7.84 -18.005,-2.54 ; -17.905,-7.84 -17.905,-2.54 ; -16.72,-7.84 -16.72,0 ; -16.62,-7.84 -16.62,0 ; -16.52,-7.84 -16.52,0 ; -15.335,-7.84 -15.335,-2.54 ; -15.235,-7.84 -15.235,-2.54 ; -15.135,-7.84 -15.135,-2.54 ; -13.95,-7.84 -13.95,0 ; -13.85,-7.84 -13.85,0 ; -13.75,-7.84 -13.75,0 ; -12.565,-7.84 -12.565,-2.54 ; -12.465,-7.84 -12.465,-2.54 ; -12.365,-7.84 -12.365,-2.54 ; -11.18,-7.84 -11.18,0 ; -11.08,-7.84 -11.08,0 ; -10.98,-7.84 -10.98,0 ; -9.795,-7.84 -9.795,-2.54 ; -9.695,-7.84 -9.695,-2.54 ; -9.595,-7.84 -9.595,-2.54 ; -8.41,-7.84 -8.41,0 ; -8.31,-7.84 -8.31,0 ; -8.21,-7.84 -8.21,0 ; -7.025,-7.84 -7.025,-2.54 ; -6.925,-7.84 -6.925,-2.54 ; -6.825,-7.84 -6.825,-2.54 ; -5.64,-7.84 -5.64,0 ; -5.54,-7.84 -5.54,0 ; -5.44,-7.84 -5.44,0 ; -4.255,-7.84 -4.255,-2.54 ; -4.155,-7.84 -4.155,-2.54 ; -4.055,-7.84 -4.055,-2.54 ; -2.87,-7.84 -2.87,0 ; -2.77,-7.84 -2.77,0 ; -2.67,-7.84 -2.67,0 ; -1.485,-7.84 -1.485,-2.54 ; -1.385,-7.84 -1.385,-2.54 ; -1.285,-7.84 -1.285,-2.54 ; -0.1,-7.84 -0.1,0 ; 0,-7.84 0,0 ; 0.1,-7.84 0.1,0 ; -29.295,-12.34 9.905,-12.34 9.905,-11.94 -29.295,-11.94 -29.295,-12.34 ; -22.395,-11.94 3.005,-11.94 3.005,-7.84 -22.395,-7.84 -22.395,-11.94 ; -21.995,-18.51 2.605,-18.51 2.605,-12.34 -21.995,-12.34 -21.995,-18.51
  text "'.Designator'" at -13.742,-16.265 h1